# EAGLE library part 7PIN (library JST_ePH)
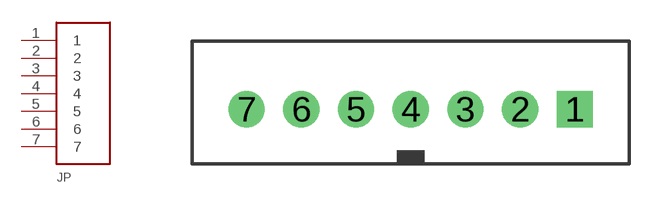
[diagram p1: symbol with the pads of B7B-PH-K-S; footprint B7B-PH-K-S]

Designator prefix JP

## 7PIN  [B7B-PH-K-S]
1  1
2  2
3  3
4  4
5  5
6  6
7  7

## Footprint B7B-PH-K-S (pad centres in mm)
drill 0.813 square: 1 6,0
drill 0.813 round: 2 4,0; 3 2,0; 4 0,0; 5 -2,0; 6 -4,0; 7 -6,0